# Altium footprint library 针式电阻.PcbLib: 22 footprints (part 1 of 2)
Each footprint in its own frame and in the unit in brackets; x right, y up, seen from the top. Pads: shape width x height; smd on the part's side, far side on the other; paste and mask are expansions set on the pad; w line width, h text height; cw(c..) or ccw(c..) is an arc to the next point about the centre after c.
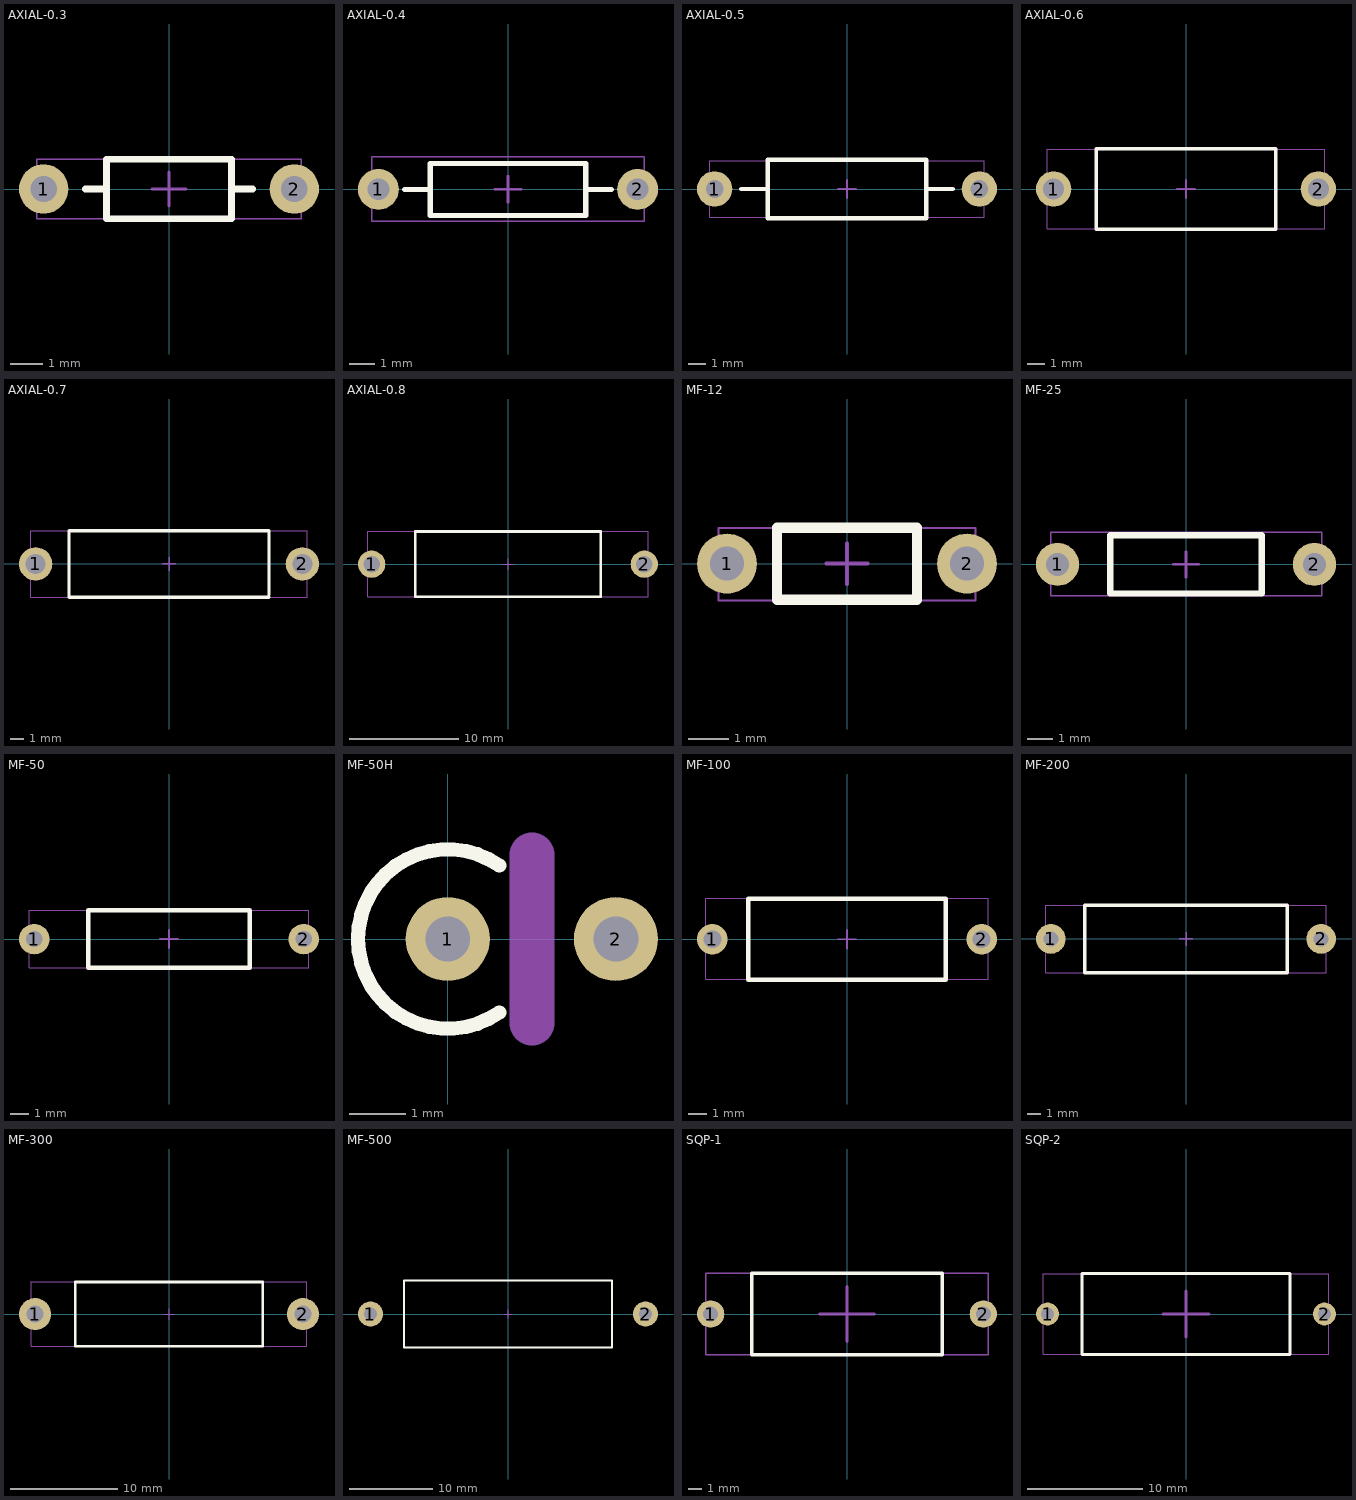
[diagram p0: the footprints below, top view; thin cyan lines are the x and y axes]

## AXIAL-0.3 [mm] "1/8W 150V -55℃~ +125℃ 针式碳膜电阻"
height 1.8
pads (2):
  round 1.5 hole 0.8: 1(-3.81,0) 2(3.81,0)
Top Overlay:
  lines w0.2: -2.54,0 -1.9,0 ; 1.9,0 2.54,0 ; -1.9,-0.905 -1.9,0.905 1.9,0.905 1.9,-0.905 -1.9,-0.905
Mechanical 13:
  lines w0.05: -4.025,-0.905 4.025,-0.905 4.025,0.905 -4.025,0.905 -4.025,-0.905
Mechanical 15:
  lines w0.102: -0.508,0 0,0 ; 0,-0.508 0,0 ; 0,0.508 0,0 ; 0.508,0 0,0
3D body: height 2.4, standoff -2.51, extent -4.025,-0.905 4.025,0.905

## AXIAL-0.4 [mm] "1/4W 250V -55℃~ +125℃ 针式碳膜电阻"
height 1.8
pads (2):
  round 1.6 hole 0.85: 1(-5.08,0) 2(5.08,0)
Top Overlay:
  lines w0.2: -4.064,0 -3.048,0 ; 3.048,0 4.064,0 ; -3.048,-1.016 -3.048,1.016 3.048,1.016 3.048,-1.016 -3.048,-1.016
Mechanical 13:
  lines w0.05: -5.35,-1.245 5.35,-1.245 5.35,1.275 -5.35,1.275 -5.35,-1.245
Mechanical 15:
  lines w0.102: -0.508,0 0,0 ; 0,-0.508 0,0 ; 0,0.508 0,0 ; 0.508,0 0,0
3D body: height 2.76, standoff -5.01, extent -5.35,-1.245 5.35,1.275

## AXIAL-0.5 [mm] "1/2W 350V -55℃~ +125℃ 针式碳膜电阻"
height 3.2
pads (2):
  round 2 hole 1: 1(-7.5,0) 2(7.5,0)
Top Overlay:
  lines w0.254: -6,0 -4.496,0 ; 4.496,0 6,0 ; -4.496,-1.651 4.496,-1.651 4.496,1.651 -4.496,1.651 -4.496,-1.651
Mechanical 13:
  lines w0.05: -7.79,-1.6 7.79,-1.6 7.79,1.61 -7.79,1.61 -7.79,-1.6
Mechanical 15:
  lines w0.102: -0.508,0 0,0 ; 0,-0.508 0,0 ; 0,0.508 0,0 ; 0.508,0 0,0
3D body: height 3.4, standoff -3.71, extent -7.79,-1.6 7.79,1.61

## AXIAL-0.6 [mm] "1W 500V -55℃~ +125℃ 针式碳膜电阻"
height 4.5
pads (2):
  round 2 hole 1.2: 1(-7.5,0) 2(7.5,0)
Top Overlay:
  lines w0.2: -5.08,-2.286 5.08,-2.286 5.08,0 5.08,2.286 -5.08,2.286 -5.08,0 -5.08,-2.286
Mechanical 13:
  lines w0.05: -7.875,-2.261 -7.875,2.252 7.875,2.252 7.875,-2.261 -7.875,-2.261
Mechanical 15:
  lines w0.102: -0.508,0 0,0 ; 0,-0.508 0,0 ; 0,0.508 0,0 ; 0.508,0 0,0
3D body: height 4.76, standoff -3.5, extent -7.875,-2.261 7.875,2.252

## AXIAL-0.7 [mm] "2W 500V -55℃~ +125℃ 针式碳膜电阻"
height 5
pads (2):
  round 2.5 hole 1.5: 1(-10,0) 2(10,0)
Top Overlay:
  lines w0.254: 7.5,-2.5 -7.5,-2.5 -7.5,2.5 7.5,2.5 7.5,-2.301
Mechanical 13:
  lines w0.05: -10.375,-2.515 10.375,-2.515 10.375,2.495 -10.375,2.495 -10.375,-2.515
Mechanical 15:
  lines w0.102: -0.508,0 0,0 ; 0,-0.508 0,0 ; 0,0.508 0,0 ; 0.508,0 0,0
3D body: height 5.3, standoff -3.71, extent -10.375,-2.515 10.375,2.495

## AXIAL-0.8 [mm] "3W 150V -55℃~ +125℃ 针式碳膜电阻"
height 6
pads (2):
  round 2.5 hole 1.5: 1(-12.5,0) 2(12.5,0)
Top Overlay:
  lines w0.254: -8.5,-3 -8.5,3 8.5,3 8.5,-3 -8.5,-3
Mechanical 13:
  lines w0.05: -12.875,-2.997 12.875,-2.997 12.875,3.025 -12.875,3.025 -12.875,-2.997
Mechanical 15:
  lines w0.102: -0.508,0 0,0 ; 0,-0.508 0,0 ; 0,0.508 0,0 ; 0.508,0 0,0
3D body: height 6.51, standoff -3.51, extent -12.875,-2.997 12.875,3.025

## MF-12 [mm] "0.167W 200V -55℃~ +155℃ 针式金属膜电阻"
height 1.8
pads (2):
  round 1.5 hole 0.85: 1(-3,0) 2(3,0)
Top Overlay:
  lines w0.254: -1.75,-0.9 1.75,-0.9 1.75,0.9 -1.75,0.9 -1.75,-0.9
Mechanical 13:
  lines w0.05: -3.215,-0.914 3.215,-0.914 3.215,0.896 -3.215,0.896 -3.215,-0.914
Mechanical 15:
  lines w0.102: -0.508,0 0,0 ; 0,-0.508 0,0 ; 0,0.508 0,0 ; 0.508,0 0,0
3D body: height 1.91, standoff -3.01, extent -3.215,-0.914 3.215,0.896

## MF-25 [mm] "1/4W 250V -55℃~ +155℃ 针式金属膜电阻"
height 1.8
pads (2):
  round 1.7 hole 0.9: 1(-5.08,0) 2(5.08,0)
Top Overlay:
  lines w0.254: -3,-1.15 -3,1.15 3,1.15 3,-1.15 -3,-1.15
Mechanical 13:
  lines w0.05: -5.341,-1.245 -5.341,1.275 5.359,1.275 5.359,-1.245 -5.341,-1.245
Mechanical 15:
  lines w0.102: -0.508,0 0,0 ; 0,-0.508 0,0 ; 0,0.508 0,0 ; 0.508,0 0,0
3D body: height 2.76, standoff -5.01, extent -5.341,-1.245 5.359,1.275

## MF-50 [mm] "1/2W 350V -55℃~ +155℃ 针式金属膜电阻"
height 3.2
pads (2):
  round 1.7 hole 0.9: 1(-7.5,0) 2(7.5,0)
Top Overlay:
  lines w0.254: -4.5,-1.6 -4.5,1.6 4.5,1.6 4.5,-1.6 -4.5,-1.6
Mechanical 13:
  lines w0.05: -7.79,-1.6 -7.79,1.61 7.79,1.61 7.79,-1.6 -7.79,-1.6
Mechanical 15:
  lines w0.102: -0.508,0 0,0 ; 0,-0.508 0,0 ; 0,0.508 0,0 ; 0.508,0 0,0
3D body: height 3.4, standoff -3.71, extent -7.79,-1.6 7.79,1.61

## MF-50H [mm] "1/2W 电阻"
height 10
pads (2):
  round 1.5 hole 0.8: 1(0,0) 2(3,0)
Top Overlay:
  lines w0.254: 0.918,-1.311 cw(c0,0) 0.918,1.311
Mechanical 1:
  lines w0.8: 1.5,-1.5 1.5,1.5
Mechanical 15:
  lines w0.102: -0.508,0 0,0 ; 0,-0.508 0,0 ; 0,0.508 0,0 ; 0.508,0 0,0

## MF-100 [mm] "1W 500V -55℃~ +155℃ 针式金属膜电阻"
height 4.5
pads (2):
  round 1.7 hole 1: 1(-7.5,0) 2(7.5,0)
Top Overlay:
  lines w0.254: -5.5,-2.25 5.5,-2.25 5.5,2.25 -5.5,2.25 -5.5,-2.25
Mechanical 13:
  lines w0.05: -7.875,-2.235 7.875,-2.235 7.875,2.277 -7.875,2.277 -7.875,-2.235
Mechanical 15:
  lines w0.102: -0.508,0 0,0 ; 0,-0.508 0,0 ; 0,0.508 0,0 ; 0.508,0 0,0
3D body: height 4.76, standoff -3.51, extent -7.875,-2.235 7.875,2.277

## MF-200 [mm] "2W 500V -55℃~ +155℃ 针式金属膜电阻"
height 5
pads (2):
  round 2.2 hole 1.1: 1(-10,0) 2(10,0)
Top Overlay:
  lines w0.254: -7.5,-2.5 -7.5,2.5 7.5,2.5 7.5,-2.5 -7.5,-2.5
Mechanical 13:
  lines w0.05: -10.375,-2.515 -10.375,2.495 10.375,2.495 10.375,-2.515 -10.375,-2.515
Mechanical 15:
  lines w0.102: -0.508,0 0,0 ; 0,-0.508 0,0 ; 0,0.508 0,0 ; 0.508,0 0,0
3D body: height 5.3, standoff -3.71, extent -10.375,-2.515 10.375,2.495

## MF-300 [mm] "3W 500V -55℃~ +155℃ 针式金属膜电阻"
height 6
pads (2):
  round 3 hole 1.6: 1(-12.5,0) 2(12.5,0)
Top Overlay:
  lines w0.254: -8.75,-3 8.75,-3 8.75,3 -8.75,3 -8.75,-3
Mechanical 13:
  lines w0.05: -12.875,-2.997 12.875,-2.997 12.875,3.025 -12.875,3.025 -12.875,-2.997
Mechanical 15:
  lines w0.102: -0.508,0 0,0 ; 0,-0.508 0,0 ; 0,0.508 0,0 ; 0.508,0 0,0
3D body: height 6.51, standoff -3.51, extent -12.875,-2.997 12.875,3.025

## MF-500 [mm] "5W 500V -55℃~ +155℃ 针式金属电阻"
height 8
pads (2):
  round 3 hole 1.6: 1(-16.51,0) 2(16.51,0)
Top Overlay:
  lines w0.254: -12.5,-4 -12.5,4 12.5,4 12.5,-4 -12.5,-4
Mechanical 15:
  lines w0.102: -0.508,0 0,0 ; 0,-0.508 0,0 ; 0,0.508 0,0 ; 0.508,0 0,0

## SQP-1 [mm] "卧式水泥电阻 (1W 200V)  -55℃~ +155℃"
height 6
pads (2):
  round 2 hole 1.1: 1(-10,0) 2(10,0)
Top Overlay:
  lines w0.254: -7,-3 -7,3 7,3 7,-3 -7,-3
Mechanical 13:
  lines w0.1: -10.375,-3 10.375,-3 10.375,3 -10.375,3 -10.375,-3
Mechanical 15:
  lines w0.254: -2,0 0,0 ; 0,-2 0,0 ; 0,2 0,0 ; 2,0 0,0
3D body: height 6.21, standoff -4.8, extent -10.375,-3 10.375,3

## SQP-2 [mm] "卧式水泥电阻 (2W 250V)  -55℃~ +155℃"
height 7
pads (2):
  round 2 hole 1.1: 1(-12,0) 2(12,0)
Top Overlay:
  lines w0.254: -9,-3.5 -9,3.5 9,3.5 9,-3.5 -9,-3.5
Mechanical 13:
  lines w0.1: -12.375,-3.5 12.375,-3.5 12.375,3.5 -12.375,3.5 -12.375,-3.5
Mechanical 15:
  lines w0.254: -2,0 0,0 ; 0,-2 0,0 ; 0,2 0,0 ; 2,0 0,0
3D body: height 7.11, standoff -4.9, extent -12.375,-3.5 12.375,3.5